# EAGLE library part GL823 (library genisys_2020)
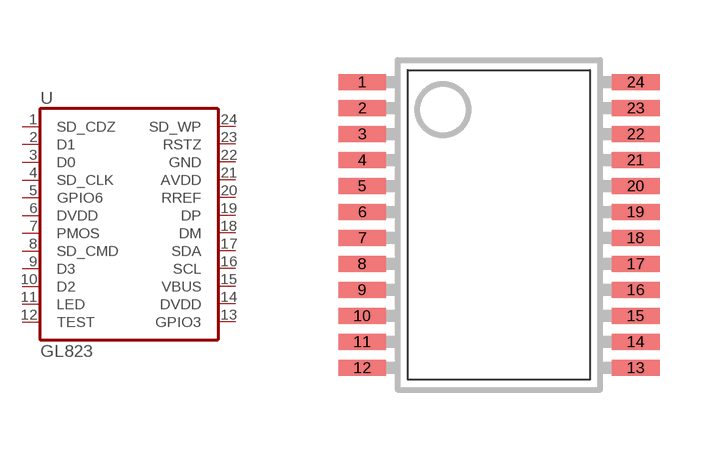
[diagram p0: symbol with the pads of SSOP24; footprint SSOP24]

Designator prefix -

## GL823  [SSOP24]
1  SD_CDZ
2  D1
3  D0
4  SD_CLK
5  GPIO6
6  DVDD  pwr
7  PMOS  pwr
8  SD_CMD
9  D3
10  D2
11  LED  out
12  TEST
13  GPIO3
14  DVDD  pwr
15  VBUS  pwr
16  SCL  in
17  SDA
18  DM
19  DP
20  RREF  out
21  AVDD  pwr
22  GND  out
23  RSTZ
24  SD_WP  in

## Footprint SSOP24 (pad centres in mm)
smd 1.2 x 0.4: 1 -3.42,3.575; 2 -3.42,2.925; 3 -3.42,2.275; 4 -3.42,1.625; 5 -3.42,0.975; 6 -3.42,0.325; 7 -3.42,-0.325; 8 -3.42,-0.975; 9 -3.42,-1.625; 10 -3.42,-2.275; 11 -3.42,-2.925; 12 -3.42,-3.575; 13 3.42,-3.575; 14 3.42,-2.925; 15 3.42,-2.275; 16 3.42,-1.625; 17 3.42,-0.975; 18 3.42,-0.325; 19 3.42,0.325; 20 3.42,0.975; 21 3.42,1.625; 22 3.42,2.275; 23 3.42,2.925; 24 3.42,3.575